# Altium schematic symbol library benvac-RCMB121-1.SchLib: 1 symbol
Pins are listed as number, name and electrical type; pins without a type are passive.

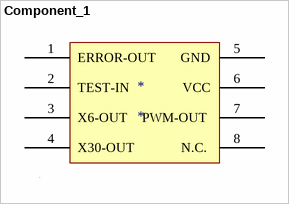
[diagram p0: symbol Component_1]

## Component_1
designator *
pins: 1 ERROR-OUT, 2 TEST-IN, 3 X6-OUT, 4 X30-OUT, 5 GND, 6 VCC, 7 PWM-OUT , 8 N.C. 